# Altium schematic symbol library XT60PW-M.SchLib: 1 symbol
Pins are listed as number, name and electrical type; pins without a type are passive.

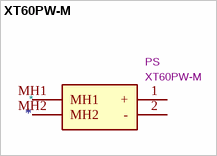
[diagram p0: symbol XT60PW-M]

## XT60PW-M
designator *  value XT60PW-M  Reference: PS
Manufacturer_Name: Changzhou Amass Elec; ki_description: Socket; DC supply; XT60; male; PIN: 2; on PCBs; THT; yellow; 30A; 500V; Footprint: XT60PWM; Datasheet: https://www.tme.eu/Document/b13629717d44ae038681dba08d18c0b6/XT60PW-M.pdf; Height: 8.4; Manufacturer_Part_Number: XT60PW-M
pins: 1 +, 2 -, MH1, MH2